# Altium schematic symbol library 4093.Schlib: 1 symbol
Pins are listed as number, name and electrical type; pins without a type are passive.

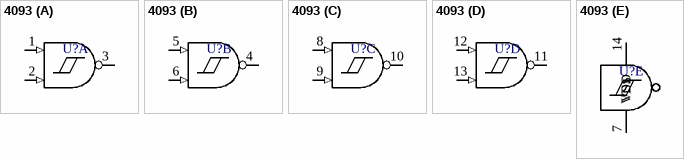
[diagram p0: symbol 4093]

## 4093
designator U?  (value not drawn)
Quad NAND Gate, Schmitt Trigger Inputs
part A pins: 1 A (in), 2 B (in), 3 J
part B pins: 4 K, 5 C (in), 6 D (in)
part C pins: 8 E (in), 9 F (in), 10 L
part D pins: 11 M, 12 G (in), 13 H (in)
part E pins: 7 VSS (power), 14 VDD (power)